# Altium footprint library Mcus.PcbLib: 18 footprints (part 2 of 2)
Each footprint in its own frame and in the unit in brackets; x right, y up, seen from the top. Pads: shape width x height; smd on the part's side, far side on the other; paste and mask are expansions set on the pad; w line width, h text height; cw(c..) or ccw(c..) is an arc to the next point about the centre after c.
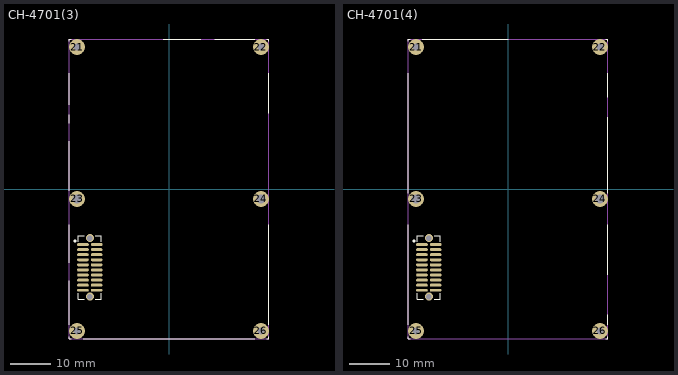
[diagram p1: the footprints below, top view; thin cyan lines are the x and y axes]

## СН-4701(3) [mm] "Разъем для СН-4701"
pads (26):
  oval 2.92x0.74 smd: 1(-21.515,-13.885) 2(-18.085,-13.885) 3(-21.515,-15.155) 4(-18.085,-15.155) 5(-21.515,-16.425) 6(-18.085,-16.425) 7(-21.515,-17.695) 8(-18.085,-17.695) 9(-21.515,-18.965) 10(-18.085,-18.965) 11(-21.515,-20.235) 12(-18.085,-20.235) 13(-21.515,-21.505) 14(-18.085,-21.505) 15(-21.515,-22.775) 16(-18.085,-22.775) 17(-21.515,-24.045) 18(-18.085,-24.045) 19(-21.515,-25.315) 20(-18.085,-25.315)
  round 4 hole 1.8: 21(-23,35.5) 22(23,35.5) 25(-23,-35.5) 26(23,-35.5)
  round 4 hole 2.2: 23(-23,-2.5) 24(23,-2.5)
via -19.8,-26.905 diameter 2 hole 1.35
via -19.8,-12.295 diameter 2 hole 1.35
Top Overlay:
  circle w0.4: c-23.5,-13 r0.2
  lines w0.2: -25,-37 -25,-37.5 -24.5,-37.5 ; -25,-34 -25,-23 ; -25,-18.5 -25,-9 ; -25,-0.5 -25,12 ; -25,16.5 -25,18.5 ; -25,21 -25,29 ; -25,37 -25,37.5 -24.5,37.5 ; -22.66,-26.04 -22.66,-27.54 -21.16,-27.54 ; -22.66,-13.16 -22.66,-11.66 -21.16,-11.66 ; -21.5,-37.5 21.5,-37.5 ; -18.44,-27.54 -16.94,-27.54 -16.94,-26.04 ; -18.44,-11.66 -16.94,-11.66 -16.94,-13.16 ; -1.5,37.5 8,37.5 ; 11.5,37.5 21.5,37.5 ; 24.5,-37.5 25,-37.5 25,-37 ; 24.5,37.5 25,37.5 25,37 ; 25,-34 25,-9 ; 25,19 25,29
Mechanical 2:
  lines w0.2: -25,-37.5 25,-37.5 25,37.5 -25,37.5 -25,-37.5
3D body "TFM-110-02-X-D-A.step": height 5.74, standoff -0.99, extent -22.785,-27.55 -16.816,-11.675

## СН-4701(4) [mm] "Разъем для СН-4701"
pads (26):
  oval 2.92x0.74 smd: 1(-21.515,-13.885) 2(-18.085,-13.885) 3(-21.515,-15.155) 4(-18.085,-15.155) 5(-21.515,-16.425) 6(-18.085,-16.425) 7(-21.515,-17.695) 8(-18.085,-17.695) 9(-21.515,-18.965) 10(-18.085,-18.965) 11(-21.515,-20.235) 12(-18.085,-20.235) 13(-21.515,-21.505) 14(-18.085,-21.505) 15(-21.515,-22.775) 16(-18.085,-22.775) 17(-21.515,-24.045) 18(-18.085,-24.045) 19(-21.515,-25.315) 20(-18.085,-25.315)
  round 4 hole 1.8: 21(-23,35.5) 22(23,35.5) 25(-23,-35.5) 26(23,-35.5)
  round 4 hole 2.2: 23(-23,-2.5) 24(23,-2.5)
via -19.8,-26.905 diameter 2 hole 1.35
via -19.8,-12.295 diameter 2 hole 1.35
Top Overlay:
  circle w0.4: c-23.5,-13 r0.2
  lines w0.2: -25,-37 -25,-37.5 -24.5,-37.5 ; -25,-34 -25,-9 ; -25,-1 -25,29 ; -25,37 -25,37.5 -24.5,37.5 ; -22.66,-26.04 -22.66,-27.54 -21.16,-27.54 ; -22.66,-13.16 -22.66,-11.66 -21.16,-11.66 ; -21.5,37.5 0,37.5 ; -18.44,-27.54 -16.94,-27.54 -16.94,-26.04 ; -18.44,-11.66 -16.94,-11.66 -16.94,-13.16 ; 24.5,-37.5 25,-37.5 25,-37 ; 24.5,37.5 25,37.5 25,37 ; 25,-34 25,-31.5 ; 25,-21.5 25,-9 ; 25,-1 25,18 ; 25,23 25,29
Mechanical 2:
  lines w0.2: -25,-37.5 25,-37.5 25,37.5 -25,37.5 -25,-37.5
3D body "TFM-110-02-X-D-A.step": height 5.74, standoff -0.99, extent -22.785,-27.55 -16.816,-11.675